# Altium footprint library YaoPCB.PCBLIB: 415 footprints (part 22 of 26)
Each footprint in its own frame and in the unit in brackets; x right, y up, seen from the top. Pads: shape width x height; smd on the part's side, far side on the other; paste and mask are expansions set on the pad; w line width, h text height; cw(c..) or ccw(c..) is an arc to the next point about the centre after c.
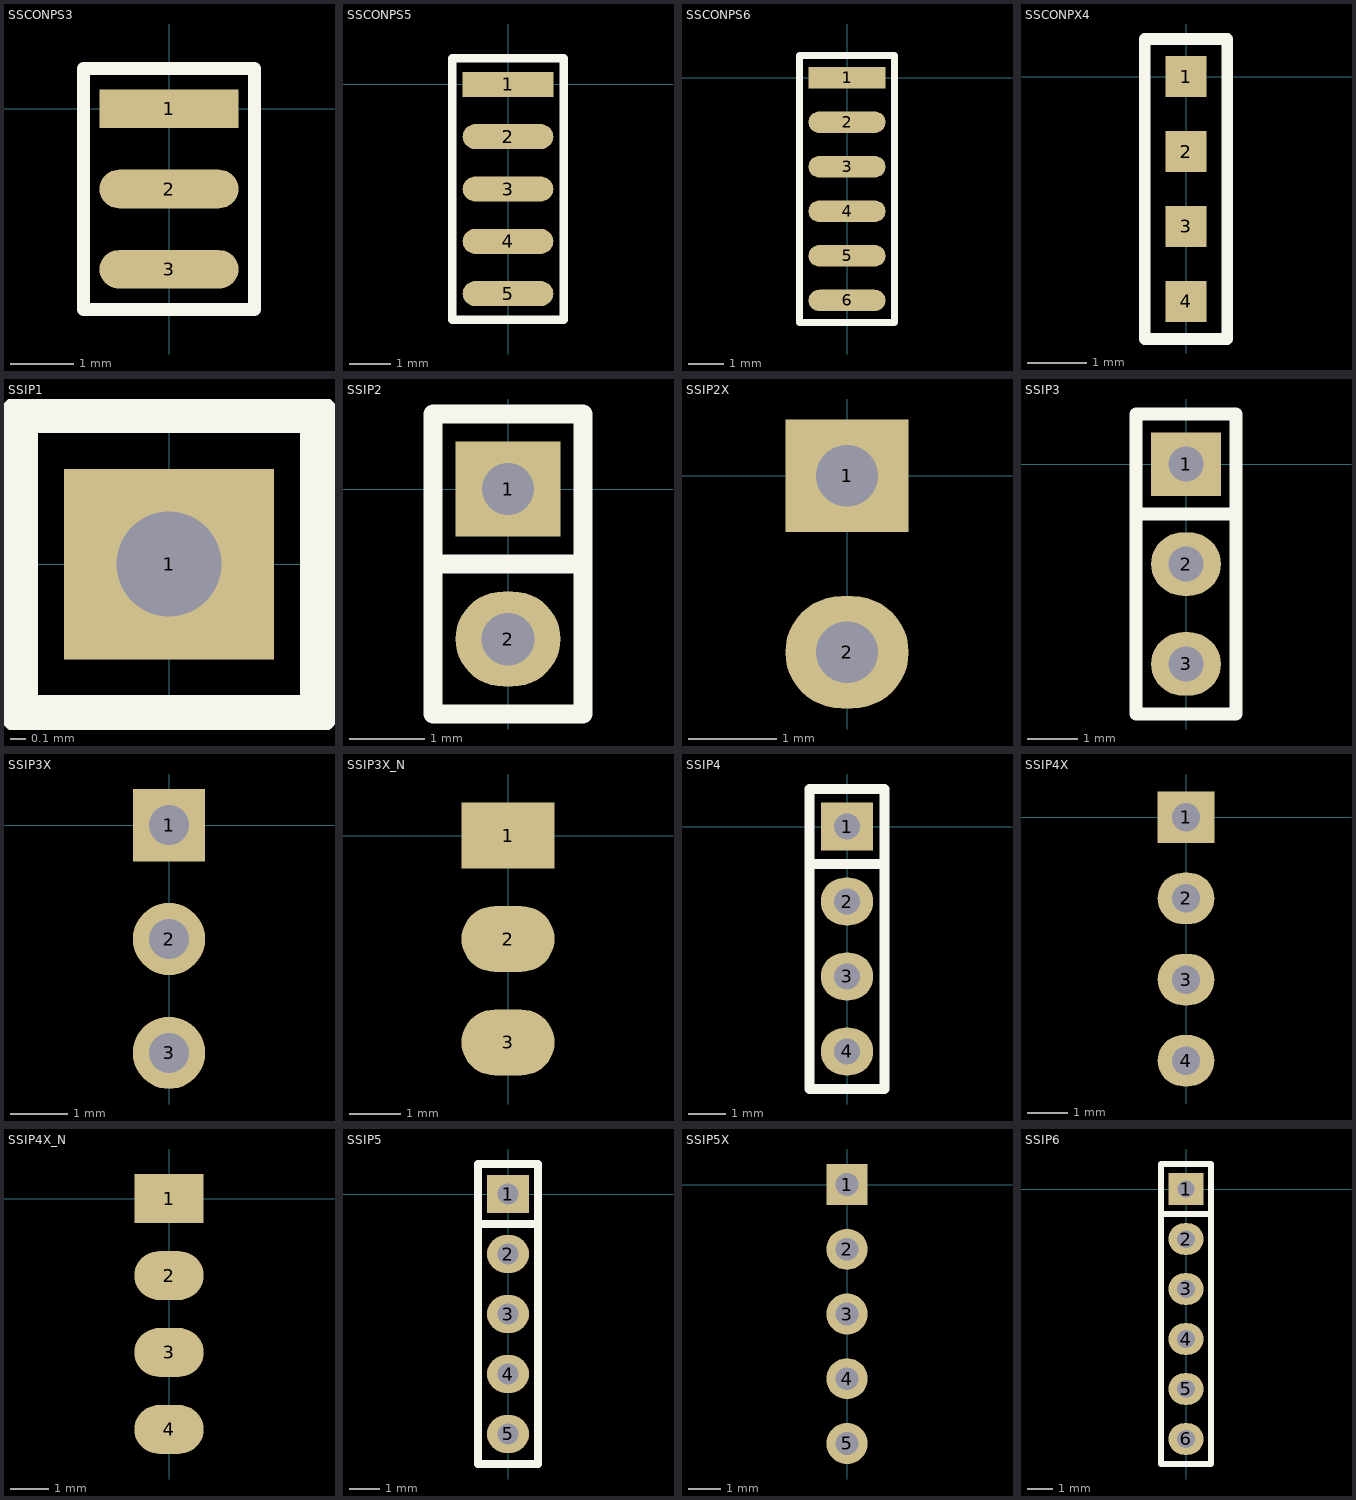
[diagram p21: the footprints below, top view; thin cyan lines are the x and y axes]

## SSCONPS3 [mm]
pads (3):
  rect 2.2x0.61 smd: 1(0,0)
  oval 2.2x0.61 smd: 2(0,-1.27) 3(0,-2.54)
TopOverlay:
  lines w0.2: -1.35,-3.175 -1.35,0.635 1.35,0.635 1.35,-3.175 -1.35,-3.175

## SSCONPS5 [mm]
pads (5):
  rect 2.2x0.61 smd: 1(0,0)
  oval 2.2x0.61 smd: 2(0,-1.27) 3(0,-2.54) 4(0,-3.81) 5(0,-5.08)
TopOverlay:
  lines w0.2: -1.35,-5.715 1.35,-5.715 1.35,0.635 -1.35,0.635 -1.35,-5.715

## SSCONPS6 [mm]
pads (6):
  rect 2.2x0.61 smd: 1(0,0)
  oval 2.2x0.61 smd: 2(0,-1.27) 3(0,-2.54) 4(0,-3.81) 5(0,-5.08) 6(0,-6.35)
TopOverlay:
  lines w0.2: -1.35,-6.985 1.35,-6.985 1.35,0.635 -1.35,0.635 -1.35,-6.985

## SSCONPX4 [mm]
pads (4):
  rect 0.7x0.7 smd: 1(0,0) 2(0,-1.27) 3(0,-2.54) 4(0,-3.81)
TopOverlay:
  lines w0.2: -0.7,-4.445 0.7,-4.445 0.7,0.635 -0.7,0.635 -0.7,-4.445

## SSIP1 [mm]
pads (1):
  rect 1.397x1.27 hole 0.7: 1(0,0)
TopOverlay:
  lines w0.254: 1,-1 -1,-1 -1,1 1,1 ; 1,-1 1,1 ; 1,-1 1,1

## SSIP2 [mm]
pads (2):
  rect 1.397x1.27 hole 0.7: 1(0,0)
  oval 1.397x1.27 hole 0.7: 2(0,-2)
TopOverlay:
  lines w0.254: -1,-1 1,-1 1,1 ; 1,1 1,-3 -1,-3 -1,1 1,1

## SSIP2X [mm]
pads (2):
  rect 1.397x1.27 hole 0.7: 1(0,0)
  oval 1.397x1.27 hole 0.7: 2(0,-2)

## SSIP3 [mm]
pads (3):
  rect 1.397x1.27 hole 0.7: 1(0,0)
  oval 1.397x1.27 hole 0.7: 2(0,-2) 3(0,-4)
TopOverlay:
  lines w0.254: -1,-1 1,-1 1,1 ; 1,1 -1,1 -1,-5 1,-5 1,1

## SSIP3X [mm]
pads (3):
  rect 1.27x1.27 hole 0.7: 1(0,0)
  round 1.27 hole 0.7: 2(0,-2) 3(0,-4)

## SSIP3X_N [mm]
pads (3):
  rect 1.8x1.27 smd: 1(0,0)
  oval 1.8x1.27 smd: 2(0,-2) 3(0,-4)

## SSIP4 [mm]
pads (4):
  rect 1.397x1.27 hole 0.7: 1(0,0)
  oval 1.397x1.27 hole 0.7: 2(0,-2) 3(0,-4) 4(0,-6)
TopOverlay:
  lines w0.254: -1,-1 1,-1 1,1 ; 1,1 -1,1 -1,-7 1,-7 1,1

## SSIP4X [mm]
pads (4):
  rect 1.397x1.27 hole 0.7: 1(0,0)
  oval 1.397x1.27 hole 0.7: 2(0,-2) 3(0,-4) 4(0,-6)

## SSIP4X_N [mm]
pads (4):
  rect 1.8x1.27 smd: 1(0,0)
  oval 1.8x1.27 smd: 2(0,-2) 3(0,-4) 4(0,-6)

## SSIP5 [mm]
pads (5):
  rect 1.397x1.27 hole 0.7: 1(0,0)
  oval 1.397x1.27 hole 0.7: 2(0,-2) 3(0,-4) 4(0,-6) 5(0,-8)
TopOverlay:
  lines w0.254: -1,-1 1,-1 1,1 ; 1,1 1,-9 -1,-9 -1,1 1,1

## SSIP5X [mm]
pads (5):
  rect 1.27x1.27 hole 0.7: 1(0,0)
  round 1.27 hole 0.7: 2(0,-2) 3(0,-4) 4(0,-6) 5(0,-8)

## SSIP6 [mm]
pads (6):
  rect 1.397x1.27 hole 0.7: 1(0,0)
  oval 1.397x1.27 hole 0.7: 2(0,-2) 3(0,-4) 4(0,-6) 5(0,-8) 6(0,-10)
TopOverlay:
  lines w0.254: -1,-1 1,-1 1,1 ; 1,1 1,-11 -1,-11 -1,1 1,1